# EAGLE library part CCM03-3504LFT (library C&K_Components-U)
CONN SMART CARD FIXED 8PIN SMD
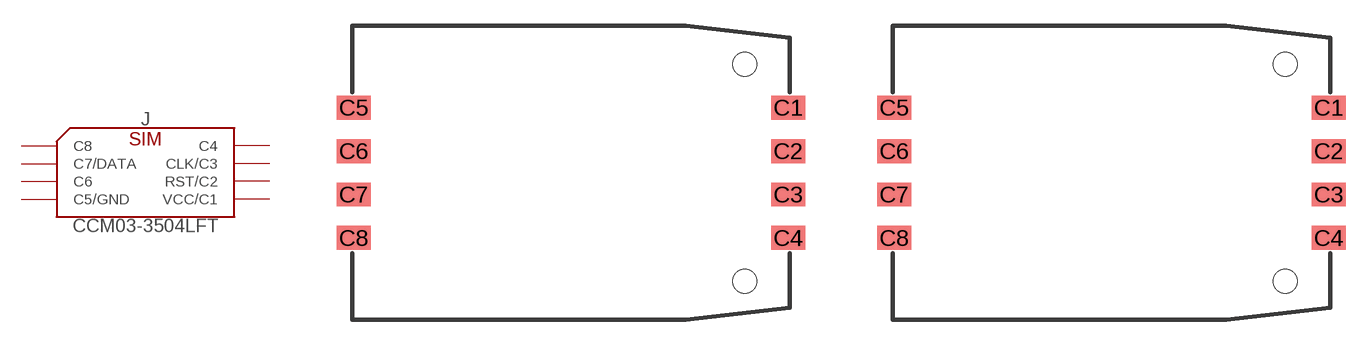
[diagram p0: symbol with the pads of CCM03-3504LFT; footprints CCM03-3504LFT, CCM03-3504LFT-NR]

Designator prefix J

## CCM03-3504LFT  [CCM03-3504LFT]
C1  VCC/C1  in
C2  RST/C2  in
C3  CLK/C3
C4  C4  nc
C5  C5/GND  in
C6  C6  nc
C7  C7/DATA
C8  C8  nc

## CCM03-3504LFT-NR  [CCM03-3504LFT-NR]
Pads as for CCM03-3504LFT

## CCM03-3504LFT-JK  [CCM03-3504LFT-JK]
Pads as for CCM03-3504LFT

## Footprint CCM03-3504LFT (pad centres in mm)
smd 2 x 1.4: C1 12.7,3.81; C2 12.7,1.27; C3 12.7,-1.27; C4 12.7,-3.81; C5 -12.7,3.81; C6 -12.7,1.27; C7 -12.7,-1.27; C8 -12.7,-3.81
hole 1.4 at 10.16,6.35
hole 1.4 at 10.16,-6.35

## Footprint CCM03-3504LFT-NR (pad centres in mm)
same as CCM03-3504LFT but no restrict on the PCB
smd 2 x 1.4: C1 12.7,3.81; C2 12.7,1.27; C3 12.7,-1.27; C4 12.7,-3.81; C5 -12.7,3.81; C6 -12.7,1.27; C7 -12.7,-1.27; C8 -12.7,-3.81
hole 1.4 at 10.16,6.35
hole 1.4 at 10.16,-6.35

## Footprint CCM03-3504LFT-JK (pad centres in mm)
smd 2.2 x 1.4: C1 12.6,3.81; C2 12.6,1.27; C3 12.6,-1.27; C4 12.6,-3.81; C5 -12.6,3.81; C6 -12.6,1.27; C7 -12.6,-1.27; C8 -12.6,-3.81